# Altium schematic symbol library ADUM1412ARWZ.SchLib: 1 symbol
Pins are listed as number, name and electrical type; pins without a type are passive.

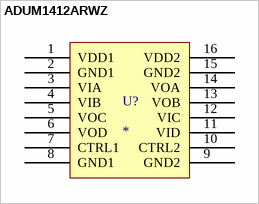
[diagram p0: symbol ADUM1412ARWZ]

## ADUM1412ARWZ
designator U?
Quad-Channel Digital Isolator
footprint SOIC127P1032X265-16N
pins: 1 VDD1, 2 GND1, 3 VIA, 4 VIB, 5 VOC, 6 VOD, 7 CTRL1, 8 GND1, 9 GND2, 10 CTRL2, 11 VID, 12 VIC, 13 VOB, 14 VOA, 15 GND2, 16 VDD2